# Altium schematic symbol library ZenerDiod1W3_6V.SchLib: 1 symbol
Pins are listed as number, name and electrical type; pins without a type are passive.

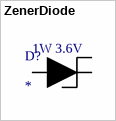
[diagram p0: symbol ZenerDiode]

## ZenerDiode
designator D?
footprint ZDIODSMA1810X2M (Chip Diode, 2-Leads, Body 5.00x2.60mm, IPC Low Density)
pins: 1 (A) (power), 2 (C) (power)
text: 1W 3.6V